# Altium integrated library Zilog Peripheral Memory Controller.IntLib: 4 symbols
Pins are listed as number, name and electrical type; pins without a type are passive.

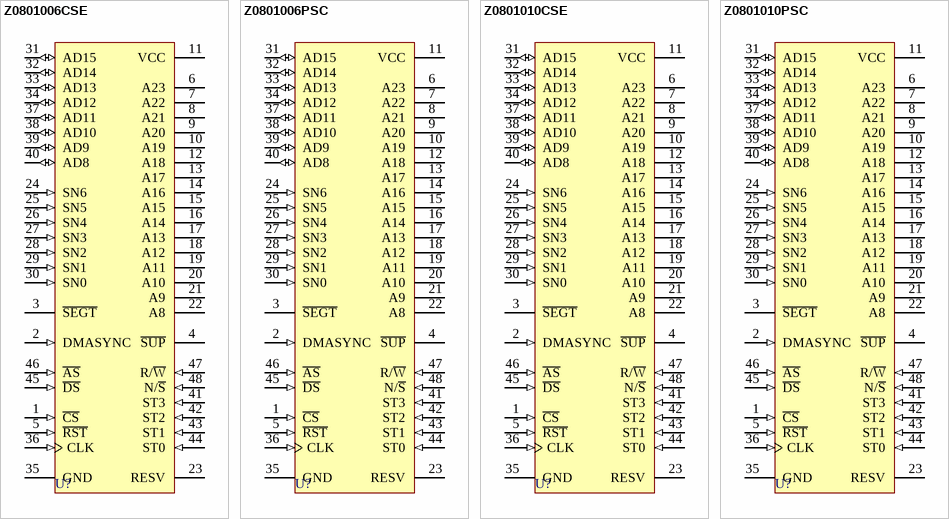
[diagram p0: symbols Z0801006CSE to Z0801010PSC]

## Z0801006CSE
designator U?
Memory Management Unit; Published: 15-Apr-2002; LatestRevisionDate: 04-Mar-2005; LatestRevisionNote: Stylized 3D Model Added.; DatasheetVersion: Oct-1988; PackageVersion: 2001; PackageReference: CDIP48; Publisher: Altium Limited; PackageDescription: DIP; 48 Leads; Row Spacing 15.24 mm; Pitch 2.54 mm; ComponentLink1Description: Manufacturer Link; ComponentLink1URL: http://www.zilog.com/
footprint CDIP48 (DIP; 48 Leads; Row Spacing 15.24 mm; Pitch 2.54 mm)
3D model CDIP48 (DIP; 48 Leads; Row Spacing 15.24 mm; Pitch 2.54 mm)
pins: 1 ~{CS} (in), 2 DMASYNC (in), 3 ~{SEGT} (oc), 4 ~{SUP} (oc), 5 ~{RST} (in), 6 A23 (hiz), 7 A22 (hiz), 8 A21 (hiz), 9 A20 (hiz), 10 A19 (hiz), 11 VCC (power), 12 A18 (hiz), 13 A17 (hiz), 14 A16 (hiz), 15 A15 (hiz), 16 A14 (hiz), 17 A13 (hiz), 18 A12 (hiz), 19 A11 (hiz), 20 A10 (hiz), 21 A9 (hiz), 22 A8 (hiz), 23 RESV, 24 SN6 (in), 25 SN5 (in), 26 SN4 (in), 27 SN3 (in), 28 SN2 (in), 29 SN1 (in), 30 SN0 (in), 31 AD15 (io), 32 AD14 (io), 33 AD13 (io), 34 AD12 (io), 35 GND (power), 36 CLK (in), 37 AD11 (io), 38 AD10 (io), 39 AD9 (io), 40 AD8 (io), 41 ST3 (in), 42 ST2 (in), 43 ST1 (in), 44 ST0 (in), 45 ~{DS} (in), 46 ~{AS} (in), 47 R/~{W} (in), 48 N/~{S} (in)

## Z0801006PSC
designator U?
Memory Management Unit; Published: 15-Apr-2002; LatestRevisionDate: 04-Mar-2005; LatestRevisionNote: Stylized 3D Model Added.; DatasheetVersion: Oct-1988; PackageVersion: 2001; PackageReference: PDIP48; Publisher: Altium Limited; PackageDescription: DIP; 48 Leads; Row Spacing 15.24 mm; Pitch 2.54 mm; ComponentLink1Description: Manufacturer Link; ComponentLink1URL: http://www.zilog.com/
footprint PDIP48 (DIP; 48 Leads; Row Spacing 15.24 mm; Pitch 2.54 mm)
3D model PDIP48 (DIP; 48 Leads; Row Spacing 15.24 mm; Pitch 2.54 mm)
pins: 1 ~{CS} (in), 2 DMASYNC (in), 3 ~{SEGT} (oc), 4 ~{SUP} (oc), 5 ~{RST} (in), 6 A23 (hiz), 7 A22 (hiz), 8 A21 (hiz), 9 A20 (hiz), 10 A19 (hiz), 11 VCC (power), 12 A18 (hiz), 13 A17 (hiz), 14 A16 (hiz), 15 A15 (hiz), 16 A14 (hiz), 17 A13 (hiz), 18 A12 (hiz), 19 A11 (hiz), 20 A10 (hiz), 21 A9 (hiz), 22 A8 (hiz), 23 RESV, 24 SN6 (in), 25 SN5 (in), 26 SN4 (in), 27 SN3 (in), 28 SN2 (in), 29 SN1 (in), 30 SN0 (in), 31 AD15 (io), 32 AD14 (io), 33 AD13 (io), 34 AD12 (io), 35 GND (power), 36 CLK (in), 37 AD11 (io), 38 AD10 (io), 39 AD9 (io), 40 AD8 (io), 41 ST3 (in), 42 ST2 (in), 43 ST1 (in), 44 ST0 (in), 45 ~{DS} (in), 46 ~{AS} (in), 47 R/~{W} (in), 48 N/~{S} (in)

## Z0801010CSE
designator U?
Memory Management Unit; Published: 15-Apr-2002; LatestRevisionDate: 04-Mar-2005; LatestRevisionNote: Stylized 3D Model Added.; DatasheetVersion: Oct-1988; PackageVersion: 2001; PackageReference: CDIP48; Publisher: Altium Limited; PackageDescription: DIP; 48 Leads; Row Spacing 15.24 mm; Pitch 2.54 mm; ComponentLink1Description: Manufacturer Link; ComponentLink1URL: http://www.zilog.com/
footprint CDIP48 (DIP; 48 Leads; Row Spacing 15.24 mm; Pitch 2.54 mm)
3D model CDIP48 (DIP; 48 Leads; Row Spacing 15.24 mm; Pitch 2.54 mm)
pins: 1 ~{CS} (in), 2 DMASYNC (in), 3 ~{SEGT} (oc), 4 ~{SUP} (oc), 5 ~{RST} (in), 6 A23 (hiz), 7 A22 (hiz), 8 A21 (hiz), 9 A20 (hiz), 10 A19 (hiz), 11 VCC (power), 12 A18 (hiz), 13 A17 (hiz), 14 A16 (hiz), 15 A15 (hiz), 16 A14 (hiz), 17 A13 (hiz), 18 A12 (hiz), 19 A11 (hiz), 20 A10 (hiz), 21 A9 (hiz), 22 A8 (hiz), 23 RESV, 24 SN6 (in), 25 SN5 (in), 26 SN4 (in), 27 SN3 (in), 28 SN2 (in), 29 SN1 (in), 30 SN0 (in), 31 AD15 (io), 32 AD14 (io), 33 AD13 (io), 34 AD12 (io), 35 GND (power), 36 CLK (in), 37 AD11 (io), 38 AD10 (io), 39 AD9 (io), 40 AD8 (io), 41 ST3 (in), 42 ST2 (in), 43 ST1 (in), 44 ST0 (in), 45 ~{DS} (in), 46 ~{AS} (in), 47 R/~{W} (in), 48 N/~{S} (in)

## Z0801010PSC
designator U?
Memory Management Unit; Published: 15-Apr-2002; LatestRevisionDate: 04-Mar-2005; LatestRevisionNote: Stylized 3D Model Added.; DatasheetVersion: Oct-1988; PackageVersion: 2001; PackageReference: PDIP48; Publisher: Altium Limited; PackageDescription: DIP; 48 Leads; Row Spacing 15.24 mm; Pitch 2.54 mm; ComponentLink1Description: Manufacturer Link; ComponentLink1URL: http://www.zilog.com/
footprint PDIP48 (DIP; 48 Leads; Row Spacing 15.24 mm; Pitch 2.54 mm)
3D model PDIP48 (DIP; 48 Leads; Row Spacing 15.24 mm; Pitch 2.54 mm)
pins: 1 ~{CS} (in), 2 DMASYNC (in), 3 ~{SEGT} (oc), 4 ~{SUP} (oc), 5 ~{RST} (in), 6 A23 (hiz), 7 A22 (hiz), 8 A21 (hiz), 9 A20 (hiz), 10 A19 (hiz), 11 VCC (power), 12 A18 (hiz), 13 A17 (hiz), 14 A16 (hiz), 15 A15 (hiz), 16 A14 (hiz), 17 A13 (hiz), 18 A12 (hiz), 19 A11 (hiz), 20 A10 (hiz), 21 A9 (hiz), 22 A8 (hiz), 23 RESV, 24 SN6 (in), 25 SN5 (in), 26 SN4 (in), 27 SN3 (in), 28 SN2 (in), 29 SN1 (in), 30 SN0 (in), 31 AD15 (io), 32 AD14 (io), 33 AD13 (io), 34 AD12 (io), 35 GND (power), 36 CLK (in), 37 AD11 (io), 38 AD10 (io), 39 AD9 (io), 40 AD8 (io), 41 ST3 (in), 42 ST2 (in), 43 ST1 (in), 44 ST0 (in), 45 ~{DS} (in), 46 ~{AS} (in), 47 R/~{W} (in), 48 N/~{S} (in)